# Altium schematic symbol library screw.SchLib: 1 symbol
Pins are listed as number, name and electrical type; pins without a type are passive.

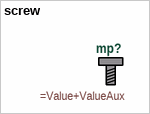
[diagram p0: symbol screw]

## screw
designator mp?  (mechanical)
=Description